# Altium footprint library Alarm.PcbLib: 1 footprints
Each footprint in its own frame and in the unit in brackets; x right, y up, seen from the top. Pads: shape width x height; smd on the part's side, far side on the other; paste and mask are expansions set on the pad; w line width, h text height; cw(c..) or ccw(c..) is an arc to the next point about the centre after c.
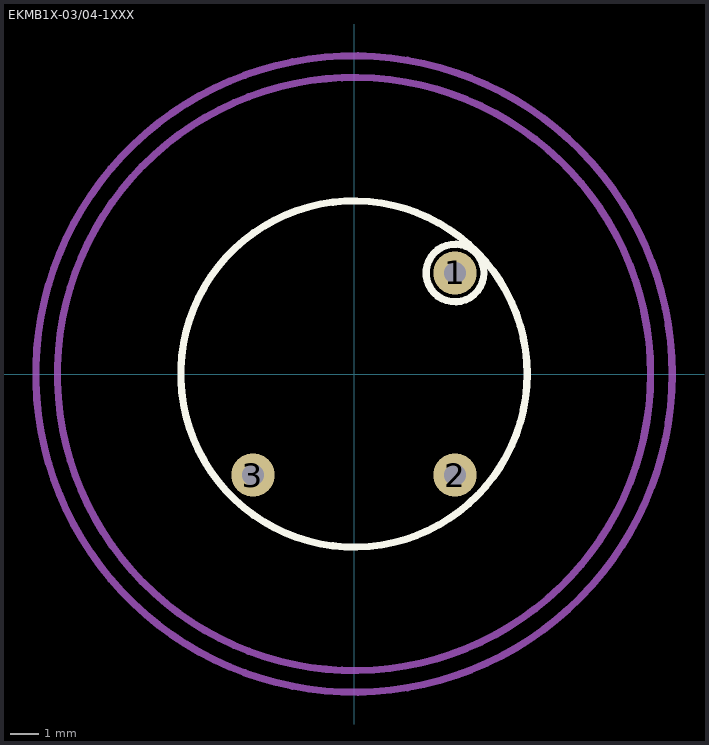
[diagram p0: the footprint, top view; thin cyan lines are the x and y axes]

## EKMB1X-03/04-1XXX [mil]
pads (3):
  round 60 hole 30: 1(140,140) 2(140,-140) 3(-140,-140)
Top Overlay:
  circle w10: c0,0 r240
  circle w10: c140,140 r40
Mechanical 1:
  circle w10: c0,0 r441.02
  circle w10: c0,0 r411.1